# EAGLE library part MAX31856 (library Signal)
Precision Thermocouple to Digital Converter with Linearization MAX31856 <http://datasheets.maximintegrated.com/en/ds/MAX31856.pdf>
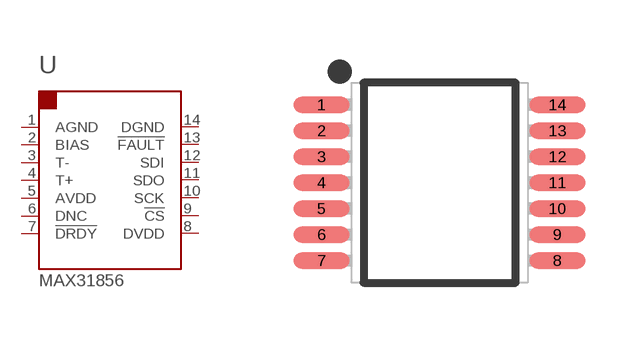
[diagram p4: symbol with the pads of TSSOP14; footprint TSSOP14]

Designator prefix U

## MAX31856MUD+ (MFPN: MAX31856MUD+; PARTNO: 01-100543-00)  [TSSOP14]
1  AGND  pwr
2  BIAS  pas
3  T-  in
4  T+  in
5  AVDD  pwr
6  DNC  nc
7  !DRDY  out
8  DVDD  pwr
9  !CS  in
10  SCK  in
11  SDO  out
12  SDI  in
13  !FAULT  out
14  DGND  pwr

## Footprint TSSOP14 (pad centres in mm)
TSSOP, 14-Leads, Body 5.00x4.40mm, Pitch 0.65mm, IPC Medium Density
smd 1.4 x 0.4: 1 -2.95,1.95; 2 -2.95,1.3; 3 -2.95,0.65; 4 -2.95,0; 5 -2.95,-0.65; 6 -2.95,-1.3; 7 -2.95,-1.95; 8 2.95,-1.95; 9 2.95,-1.3; 10 2.95,-0.65; 11 2.95,0; 12 2.95,0.65; 13 2.95,1.3; 14 2.95,1.95